# Altium schematic symbol library ADG1604-TSSOP14.SchLib: 1 symbol
Pins are listed as number, name and electrical type; pins without a type are passive.

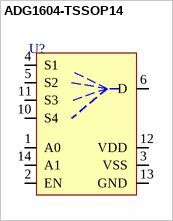
[diagram p0: symbol ADG1604-TSSOP14]

## ADG1604-TSSOP14
designator U?  (value not drawn)
pins: 1 A0, 2 EN, 3 VSS, 4 S1, 5 S2, 6 D, 10 S4, 11 S3, 12 VDD, 13 GND, 14 A1